# Altium footprint library PCB_deskclok_ext_2021-02-23.PcbLib: 18 footprints (part 1 of 2)
Each footprint in its own frame and in the unit in brackets; x right, y up, seen from the top. Pads: shape width x height; smd on the part's side, far side on the other; paste and mask are expansions set on the pad; w line width, h text height; cw(c..) or ccw(c..) is an arc to the next point about the centre after c.
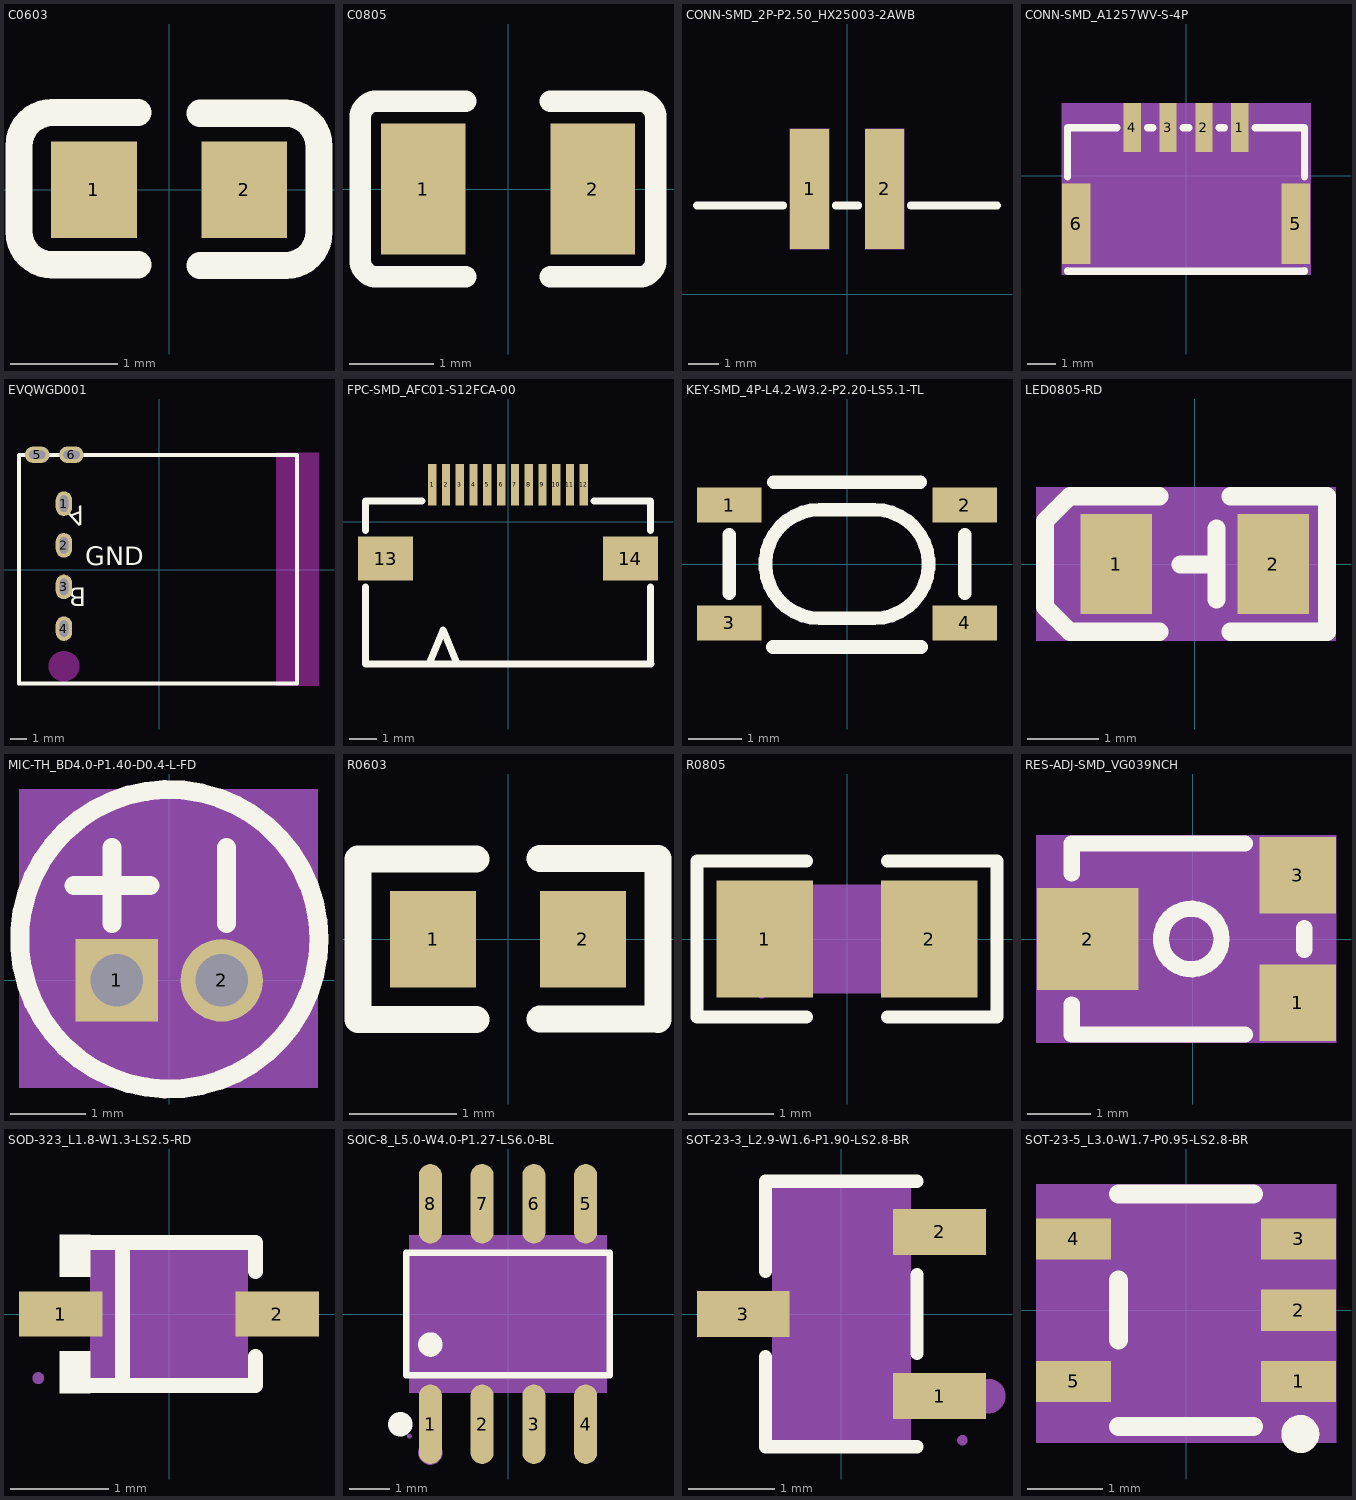
[diagram p0: the footprints below, top view; thin cyan lines are the x and y axes]

## C0603 [mm]
pads (2):
  rect 0.8x0.9 smd: 1(-0.7,0) 2(0.7,0)
Top Overlay:
  lines w0.254: -0.289,-0.698 -1.089,-0.698 cw(c-1.089,-0.388) -1.399,-0.388 -1.398,0.412 cw(c-1.089,0.412) -1.089,0.722 -0.289,0.722 ; 0.287,-0.704 1.087,-0.704 ccw(c1.087,-0.394) 1.397,-0.394 1.397,0.406 ccw(c1.087,0.406) 1.087,0.716 0.287,0.716
3D body "c0603x104k3ractu.stp": height 0.95, standoff 0, extent -0.874,-0.465 0.895,0.485

## C0805 [mm]
pads (2):
  rect 1x1.55 smd: 1(-1,0) 2(1,0)
Top Overlay:
  lines w0.254: -1.75,0.82 -1.75,0.8 ; -0.5,-1.04 -1.55,-1.04 cw(c-1.55,-0.84) -1.75,-0.84 -1.75,-0.8 -1.75,0.8 ; -0.5,1.04 -1.55,1.04 ccw(c-1.55,0.84) -1.75,0.84 -1.75,0.8 ; 0.5,-1.04 1.55,-1.04 ccw(c1.55,-0.84) 1.75,-0.84 1.75,-0.8 1.75,0.8 1.75,0.84 ccw(c1.55,0.84) 1.55,1.04 0.5,1.04
3D body "c0805c101k5gactu.stp": height 0.88, standoff 0, extent -1.045,-0.71 1.155,0.74

## CONN-SMD_2P-P2.50_HX25003-2AWB [mm]
pads (2):
  rect 1.3x4 smd: 1(-1.25,3.5) 2(1.25,3.5)
Top Overlay:
  lines w0.254: -5,2.95 -2.131,2.95 ; -0.369,2.95 0.369,2.95 ; 2.131,2.95 5,2.95
Mechanical 5:
  region: -1.9,5.5 -0.6,5.5 -0.6,1.5 -1.9,1.5
  region: 0.6,5.5 1.9,5.5 1.9,1.5 0.6,1.5

## CONN-SMD_A1257WV-S-4P [mm]
pads (6):
  rect 0.6x1.7 smd: 1(1.875,1.675) 2(0.625,1.675) 3(-0.625,1.675) 4(-1.875,1.675)
  rect 1x2.8 smd: 5(3.825,-1.675) 6(-3.825,-1.675)
Top Overlay:
  lines w0.254: -4.125,-3.306 -4.125,-3.325 4.125,-3.325 4.125,-3.306 ; -4.125,-0.044 -4.125,1.675 -2.406,1.675 ; -1.344,1.675 -1.156,1.675 ; -0.094,1.675 0.094,1.675 ; 1.156,1.675 1.344,1.675 ; 2.406,1.675 4.125,1.675 4.125,-0.044
Mechanical 4:
  region: -4.325,2.525 4.343,2.525 4.343,-3.452 -4.325,-3.452
Mechanical 5:
  region: 1.575,2.525 2.175,2.525 2.175,0.825 1.575,0.825
  region: 0.325,2.525 0.925,2.525 0.925,0.825 0.325,0.825
  region: -0.925,2.525 -0.325,2.525 -0.325,0.825 -0.925,0.825
  region: 3.325,-0.275 4.325,-0.275 4.325,-3.075 3.325,-3.075
  region: -4.325,-0.275 -3.325,-0.275 -3.325,-3.075 -4.325,-3.075
  region: -2.175,2.525 -1.575,2.525 -1.575,0.825 -2.175,0.825
3D body "User Library-SM04B-GHS-TB.step": height 4.38, standoff 0.03, extent -4.125,-3.175 4.125,1.675

## EVQWGD001 [mm]
pads (6):
  oval 1x1.5 hole 0.5 slot 1 at 90 deg: 1(-5.807,4.03) 2(-5.807,1.49) 3(-5.807,-1.05) 4(-5.807,-3.59)
  oval 1.5x1 hole 0.5 slot 1 at 0 deg: 5(-7.438,7.015) 6(-5.348,7.015)
Top Overlay:
  lines w0.254: -8.547,-6.94 -8.547,7.006 8.418,7.006 8.418,-6.94 -8.547,-6.94
  text "B" at -4.435,-1.103 h1.14
  text "GND" at -4.52,0.274 h1.14
  text "A" at -4.725,3.939 h1.14
Keep-Out Layer:
  board cut-out: 7.139,7.139 9.753,7.139 9.753,-7.065 7.139,-7.065
  board cut-out: -4.882,-5.89 -4.883,-6.036 -4.974,-6.315 -5.146,-6.553 -5.384,-6.725 -5.663,-6.815 -5.957,-6.815 -6.236,-6.724 -6.473,-6.552 -6.646,-6.314 -6.736,-6.035 -6.736,-5.742 -6.646,-5.462 -6.473,-5.225 -6.236,-5.052 -5.957,-4.961 -5.663,-4.961 -5.384,-5.052 -5.146,-5.224 -4.974,-5.461 -4.883,-5.74 -4.882,-5.887
3D body "Encoder.STEP": height 13.25, standoff -3.5, extent -8.3,-6.731 8.3,7.119

## FPC-SMD_AFC01-S12FCA-00 [mil]
pads (14):
  rect 11.9x59.1 smd: 1(-108.28,52.78) 8(29.52,52.78)
  rect 11.8x59.1 smd: 2(-88.63,52.78) 3(-68.93,52.78) 4(-49.23,52.78) 5(-29.53,52.78) 6(-9.83,52.78) 7(9.87,52.78) 9(49.17,52.78) 10(68.87,52.78) 11(88.57,52.78) 12(108.27,52.78)
  rect 78.7x63 smd: 13(-175.2,-52.77) 14(175.2,-52.77)
Top Overlay:
  lines w10: -112.4,-202.55 -92.71,-154.91 -73.42,-202.16 ; 204.75,-203.17 -203.93,-203.17 ; -203.93,-203.17 -203.93,-93.37 -203.93,-203.17 ; -203.93,29.93 -203.93,-12.17 -203.93,29.93 ; -203.93,29.93 -123.33,29.93 -203.93,29.93 ; 203.95,29.93 203.95,-12.17 203.95,29.93 ; 203.95,29.93 123.27,29.93 203.95,29.93 ; 203.95,-203.17 203.95,-93.37 203.95,-203.17
3D body "52746-1290.stp": height 78.74, standoff 0, extent -238.18,-227.28 238.2,32.57

## KEY-SMD_4P-L4.2-W3.2-P2.20-LS5.1-TL [mm]
pads (4):
  rect 1.2x0.65 smd: 1(-2.2,1.1) 2(2.2,1.1) 3(-2.2,-1.1) 4(2.2,-1.1)
Top Overlay:
  lines w0.254: -2.2,-0.544 -2.2,0.544 ; -1.381,-1.55 1.381,-1.55 ; -1.366,1.524 1.366,1.524 ; 2.2,-0.544 2.2,0.544 ; -0.508,-1.016 cw(c-0.508,0) -0.508,1.016 0.508,1.016 cw(c0.508,0) 0.508,-1.016 -0.508,-1.016
3D body "skrpace010.stp": height 2.5, standoff 0, extent -2.3,-1.6 2.3,1.6

## LED0805-RD [mm]
pads (2):
  rect 1x1.4 smd: 1(-1.1,0) 2(1.1,0)
Top Overlay:
  lines w0.254: -0.5,-0.95 -1.75,-0.95 ; -0.5,0.95 -1.75,0.95 ; -0.2,-0.005 0.3,-0.005 ; 0.3,-0.5 0.3,0.5 ; 0.5,-0.95 1.85,-0.95 1.85,0.95 0.5,0.95 ; -1.75,-0.95 -1.75,-0.95 ; -1.75,-0.95 -2.1,-0.6 -2.1,0.6 -1.75,0.95 ; -1.75,0.95 -1.75,0.95
Mechanical 4:
  region: -2.227,1.077 1.977,1.077 1.977,-1.077 -2.227,-1.077
Mechanical 5:
  region: 0.6,0.7 1.6,0.7 1.6,-0.7 0.6,-0.7
  region: -1.6,0.7 -0.6,0.7 -0.6,-0.7 -1.6,-0.7
3D body "everlight-17-21-0805LED-GREEN.step": height 1.1, standoff -0.01, extent -1.068,-0.629 0.932,0.621

## MIC-TH_BD4.0-P1.40-D0.4-L-FD [mm]
pads (2):
  rect 1.1x1.1 hole 0.7: 1(-0.7,0)
  round 1.1 hole 0.7: 2(0.7,0)
Top Overlay:
  circle w0.254: c0,0.55 r2
  lines w0.254: -1.27,1.27 -0.254,1.27 ; -0.762,0.762 -0.762,1.778 ; 0.762,0.762 0.762,1.778
Mechanical 4:
  region: -2.007,2.557 1.981,2.557 1.981,-1.431 -2.007,-1.431
Mechanical 5:
  region: 0.15,0.55 1.25,0.55 1.25,-0.55 0.15,-0.55
  region: -1.25,0.55 -0.15,0.55 -0.15,-0.55 -1.25,-0.55

## R0603 [mm]
pads (2):
  rect 0.8x0.9 smd: 1(-0.7,0) 2(0.7,0)
Top Overlay:
  lines w0.254: -1.401,-0.75 -0.3,-0.75 ; -1.401,0.75 -0.3,0.75 ; -1.4,-0.75 -1.4,0.75 ; 0.301,-0.745 1.401,-0.745 ; 0.301,0.755 1.401,0.755 ; 1.401,-0.75 1.401,0.75
3D body "User Library-Res-0603.step": height 0.42, standoff 0, extent -0.8,-0.4 0.8,0.4

## R0805 [mm]
pads (2):
  rect 1.133x1.377 smd: 1(-0.966,0) 2(0.966,0)
Top Overlay:
  lines w0.152: -0.476,-0.917 -1.761,-0.917 -1.761,0.917 -0.476,0.917 ; 0.476,-0.917 1.761,-0.917 1.761,0.917 0.476,0.917
Top Paste:
  region: -0.36,-0.22 -0.36,0.22 -0.745,0.688 -1.433,0.688 -1.533,0.588 -1.533,-0.588 -1.433,-0.688 -0.745,-0.688
  region: 0.36,-0.22 0.36,0.22 0.745,0.688 1.433,0.688 1.533,0.588 1.533,-0.588 1.433,-0.688 0.745,-0.688
Mechanical 4:
  region: -1,-0.637 -1,0.637 1,0.637 1,-0.637
Mechanical 5:
  region: 1,-0.637 1,0.637 0.6,0.637 0.6,-0.637
  region: -1,-0.637 -1,0.637 -0.6,0.637 -0.6,-0.637
Mechanical 6:
  circle w0.06: c-1,-0.638 r0.03
3D body "User Library-Res-0805.step": height 0.83, standoff 0.3, extent -1,-0.615 1,0.635

## RES-ADJ-SMD_VG039NCH [mm]
pads (3):
  rect 1.2x1.2 smd: 1(1.65,-1) 3(1.65,1)
  rect 1.6x1.6 smd: 2(-1.65,0)
Top Overlay:
  circle w0.254: c-0.025,0 r0.475
  lines w0.254: -0.1,1.5 -1.9,1.5 ; 0.819,-1.5 -0.1,-1.5 -1.9,-1.5 ; 0.819,1.5 -1.9,1.5 ; 1.75,-0.169 1.75,0.169 ; -1.9,-1.5 -1.9,-1.031 ; -1.9,-1.5 -1.9,-1.031 ; -1.9,-1.5 -1.9,-1.031 ; -1.9,1.031 -1.9,1.5 ; -1.9,1.031 -1.9,1.5 ; -1.9,1.031 -1.9,1.5
Mechanical 4:
  region: -2.462,1.627 2.25,1.627 2.25,-1.627 -2.462,-1.627
Mechanical 5:
  region: -2.45,0.8 -0.85,0.8 -0.85,-0.8 -2.45,-0.8
  region: 1.05,1.6 2.25,1.6 2.25,0.4 1.05,0.4
  region: 1.05,-0.4 2.25,-0.4 2.25,-1.6 1.05,-1.6

## SOD-323_L1.8-W1.3-LS2.5-RD [mm]
pads (2):
  rect 0.845x0.455 smd: 1(-1.098,0) 2(1.098,0)
Top Overlay:
  region: -0.8,0.802 -0.8,0.38 -1.105,0.38 -1.105,0.802
  region: -0.8,-0.802 -0.8,-0.38 -1.105,-0.38 -1.105,-0.802
  lines w0.152: -0.876,-0.726 0.876,-0.726 0.876,-0.431 ; -0.876,0.726 0.876,0.726 0.876,0.431 ; -0.472,-0.726 -0.472,0.726
Mechanical 4:
  region: -0.8,-0.65 -0.8,0.65 0.8,0.65 0.8,-0.65
Mechanical 5:
  region: -1.325,-0.163 -1.325,0.163 -1,0.163 -1,-0.163
  pour cut-out: -0.79,-0.163 -0.79,0.163 -1.01,0.163 -1.01,-0.163
  region: 1.325,-0.163 1.325,0.163 1,0.163 1,-0.163
  pour cut-out: 0.79,-0.163 0.79,0.163 1.01,0.163 1.01,-0.163
Mechanical 6:
  circle w0.06: c-1.325,-0.65 r0.03
Mechanical 15:
  region: -0.644,0.078 -0.644,-0.078 -0.02,-0.078 -0.02,0.078
  region: 0.644,0.078 0.644,-0.078 0.02,-0.078 0.02,0.078
  region: 0.41,0.52 0.41,-0.52 0.254,-0.52 0.254,0.52
3D body "User Library-SOD323-1.step": height 1.1, standoff 0, extent -1.3,-0.675 1.3,0.675

## SOIC-8_L5.0-W4.0-P1.27-LS6.0-BL [mil]
pads (8):
  oval 22.38x76.78 smd: 1(-75,-106.5) 2(-25,-106.5) 3(25,-106.5) 4(75,-106.5) 5(75,106.5) 6(25,106.5) 7(-25,106.5) 8(-75,106.5)
Top Overlay:
  circle w11.81: c-75,-29.49 r5.91
  circle w11.81: c-104,-106.5 r5.91
  lines w6: -98.28,-59.11 -98.28,59.11 98.28,59.11 98.28,-59.11 -98.28,-59.11
Mechanical 4:
  region: -95.28,-75.98 -95.28,75.98 95.28,75.98 95.28,-75.98
Mechanical 5:
  region: -82.99,-118.11 -82.99,-92.13 -67.01,-92.13 -67.01,-118.11
  pour cut-out: -82.99,-92.52 -82.99,-75.59 -67.01,-75.59 -67.01,-92.52
  region: -32.99,-118.11 -32.99,-92.13 -17.01,-92.13 -17.01,-118.11
  pour cut-out: -32.99,-92.52 -32.99,-75.59 -17.01,-75.59 -17.01,-92.52
  region: 17.01,-118.11 17.01,-92.13 32.99,-92.13 32.99,-118.11
  pour cut-out: 17.01,-92.52 17.01,-75.59 32.99,-75.59 32.99,-92.52
  region: 67.01,-118.11 67.01,-92.13 82.99,-92.13 82.99,-118.11
  pour cut-out: 67.01,-92.52 67.01,-75.59 82.99,-75.59 82.99,-92.52
  region: -82.99,118.11 -82.99,92.13 -67.01,92.13 -67.01,118.11
  pour cut-out: -82.99,92.52 -82.99,75.59 -67.01,75.59 -67.01,92.52
  region: -32.99,118.11 -32.99,92.13 -17.01,92.13 -17.01,118.11
  pour cut-out: -32.99,92.52 -32.99,75.59 -17.01,75.59 -17.01,92.52
  region: 17.01,118.11 17.01,92.13 32.99,92.13 32.99,118.11
  pour cut-out: 17.01,92.52 17.01,75.59 32.99,75.59 32.99,92.52
  region: 67.01,118.11 67.01,92.13 82.99,92.13 82.99,118.11
  pour cut-out: 67.01,92.52 67.01,75.59 82.99,75.59 82.99,92.52
Mechanical 6:
  circle w2.36: c-95.28,-118.11 r1.18
Mechanical 15:
  circle w11.81: c-75,-133.86 r5.91
3D body "User Library-so8-3.step": height 66.93, standoff 0, extent -96.46,-118.1 96.46,118.12

## SOT-23-3_L2.9-W1.6-P1.90-LS2.8-BR [mm]
pads (3):
  rect 1.07x0.532 smd: 1(1.135,-0.95) 2(1.135,0.95) 3(-1.135,0)
Top Overlay:
  lines w0.152: -0.876,-0.495 -0.876,-1.536 0.876,-1.536 ; -0.876,0.495 -0.876,1.536 0.876,1.536 ; 0.876,-0.455 0.876,0.455
Mechanical 4:
  region: -0.8,-1.46 -0.8,1.46 0.8,1.46 0.8,-1.46
Mechanical 5:
  region: 0.95,-1.15 0.95,-0.75 1.4,-0.75 1.4,-1.15
  pour cut-out: 0.79,-1.15 0.79,-0.75 0.96,-0.75 0.96,-1.15
  region: 0.95,0.75 0.95,1.15 1.4,1.15 1.4,0.75
  pour cut-out: 0.79,0.75 0.79,1.15 0.96,1.15 0.96,0.75
  region: -0.95,-0.2 -0.95,0.2 -1.4,0.2 -1.4,-0.2
  pour cut-out: -0.96,-0.2 -0.96,0.2 -0.79,0.2 -0.79,-0.2
Mechanical 6:
  circle w0.06: c1.4,-1.46 r0.03
Mechanical 15:
  circle w0.2: c1.7,-0.95 r0.1
3D body "CircuitWorks-SOT-23.step": height 1.08, standoff -0.02, extent -1.25,-1.5 1.25,1.5

## SOT-23-5_L3.0-W1.7-P0.95-LS2.8-BR [mm]
pads (5):
  rect 1x0.55 smd: 1(1.5,-0.95) 2(1.5,0) 3(1.5,0.95) 4(-1.5,0.95) 5(-1.5,-0.95)
Top Overlay:
  circle w0.254: c1.524,-1.651 r0.127
  lines w0.254: -0.9,-1.55 0.9,-1.55 ; -0.9,-0.4 -0.9,0.4 ; -0.9,1.55 0.9,1.55
Mechanical 4:
  region: -2,1.677 2,1.677 2,-1.765 -2,-1.765
Mechanical 5:
  region: -2,-0.675 -1,-0.675 -1,-1.225 -2,-1.225
  region: -2,1.225 -1,1.225 -1,0.675 -2,0.675
  region: 1,1.225 2,1.225 2,0.675 1,0.675
  region: 1,0.275 2,0.275 2,-0.275 1,-0.275
  region: 1,-0.675 2,-0.675 2,-1.225 1,-1.225
3D body "CircuitWorks-SOT-23-5.STEP": height 1.11, standoff 0.01, extent -1.254,-1.544 1.246,1.456